# Altium footprint library Conwin.PcbLib: 1 footprints
Each footprint in its own frame and in the unit in brackets; x right, y up, seen from the top. Pads: shape width x height; smd on the part's side, far side on the other; paste and mask are expansions set on the pad; w line width, h text height; cw(c..) or ccw(c..) is an arc to the next point about the centre after c.
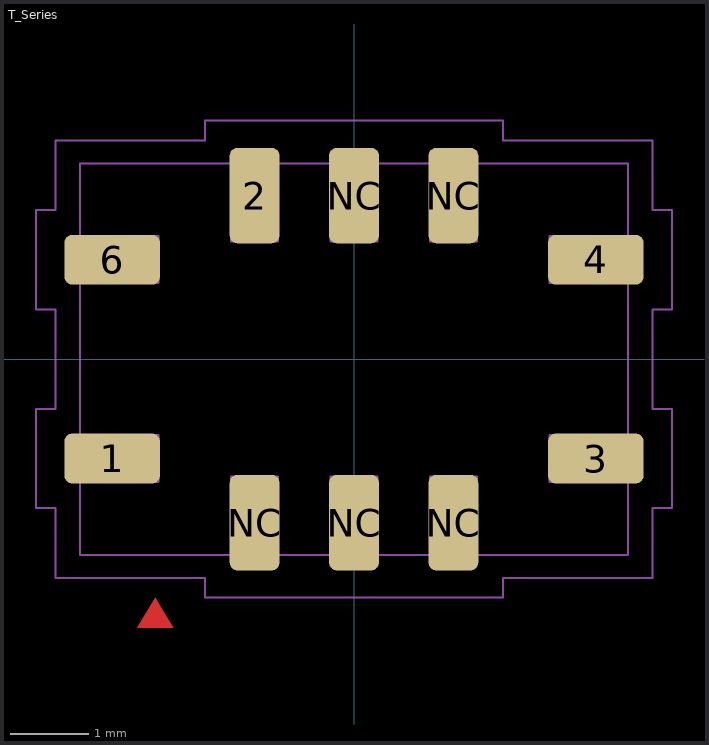
[diagram p0: the footprint, top view; thin cyan lines are the x and y axes]

## T_Series [mil]
height 94.49
pads (10):
  rrect30% 48x25 smd mask+2: 1(-121.61,-50) 3(121.61,-50) 4(121.61,50) 6(-121.61,50)
  rrect30% 25x48 smd mask+2: 2(-50,82.24) NC(-50,-82.24) NC(0,-82.24) NC(0,82.24) NC(50,-82.24) NC(50,82.24)
Top Layer:
  region: -100,-120 -109,-135 -91,-135
Top Designator:
  text ".Designator" at -127.64,-12.5 h35
Top Courtyard:
  lines w1: -160,-75 -160,-25 -150,-25 -150,25 -160,25 -160,75 -150,75 -150,110 -75,110 -75,120 75,120 75,110 150,110 150,75 160,75 160,25 150,25 150,-25 160,-25 160,-75 150,-75 150,-110 75,-110 75,-120 -75,-120 -75,-110 -150,-110 -150,-75 -160,-75
Top Component Outline:
  lines w1: -137.8,-61.81 -98.43,-61.81 -98.43,-38.19 -137.8,-38.19 ; -137.8,38.19 -98.43,38.19 -98.43,61.81 -137.8,61.81 ; -61.81,-98.43 -61.81,-59.06 -38.19,-59.06 -38.19,-98.43 ; -61.81,98.43 -61.81,59.06 -38.19,59.06 -38.19,98.43 ; -11.81,-98.43 -11.81,-59.06 11.81,-59.06 11.81,-98.43 ; -11.81,98.43 -11.81,59.06 11.81,59.06 11.81,98.43 ; 38.19,-98.43 38.19,-59.06 61.81,-59.06 61.81,-98.43 ; 38.19,98.43 38.19,59.06 61.81,59.06 61.81,98.43 ; 137.8,-61.81 98.43,-61.81 98.43,-38.19 137.8,-38.19 ; 137.8,38.19 98.43,38.19 98.43,61.81 137.8,61.81 ; -137.8,-98.43 -137.8,98.43 137.8,98.43 137.8,-98.43 -137.8,-98.43
3D body "User Library-CFPT-126_v14.STEP": height 78.74, standoff 0, extent -137.79,-98.42 137.8,98.43